# EAGLE library part NTB0102 (library FaBo-LevelTranslator)
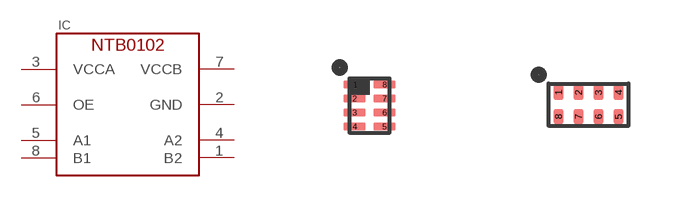
[diagram p2: symbol with the pads of SOT1089; footprints SOT1089, SOT833-1]

Designator prefix IC

## NTB0102GF  [SOT1089]
1  B2
2  GND
3  VCCA
4  A2
5  A1
6  OE
7  VCCB
8  B1

## NTB0102GT  [SOT833-1]
Pads as for SOT1089

## Footprint SOT1089 (pad centres in mm)
smd 0.6 x 0.2: 1 -0.35,0.525
smd 0.55 x 0.2: 2 -0.375,0.175; 3 -0.375,-0.175; 4 -0.375,-0.525; 5 0.375,-0.525; 6 0.375,-0.175; 7 0.375,0.175; 8 0.375,0.525

## Footprint SOT833-1 (pad centres in mm)
smd 0.25 x 0.35: 1 -0.75,0.3; 2 -0.25,0.3; 3 0.25,0.3; 4 0.75,0.3; 5 0.75,-0.3; 6 0.25,-0.3; 7 -0.25,-0.3; 8 -0.75,-0.3